# Altium schematic symbol library CC0201KRX5R7BB104.SchLib: 1 symbol
Pins are listed as number, name and electrical type; pins without a type are passive.

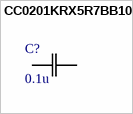
[diagram p0: symbol CC0201KRX5R7BB104]

## CC0201KRX5R7BB104
designator C?, comment 0.1u
Description; Manufacturer_Name: Yageo; Manufacturer_Part_Number: CC0201KRX5R7BB104; Copyright: Copyright (C) 2025 Ultra Librarian. All rights reserved.
footprint CAP_CC0201_YAG
pins: 1, 2